# Altium integrated library TI Data Converters Digital to Analog Converter.IntLib: 1533 symbols (part 11 of 99)
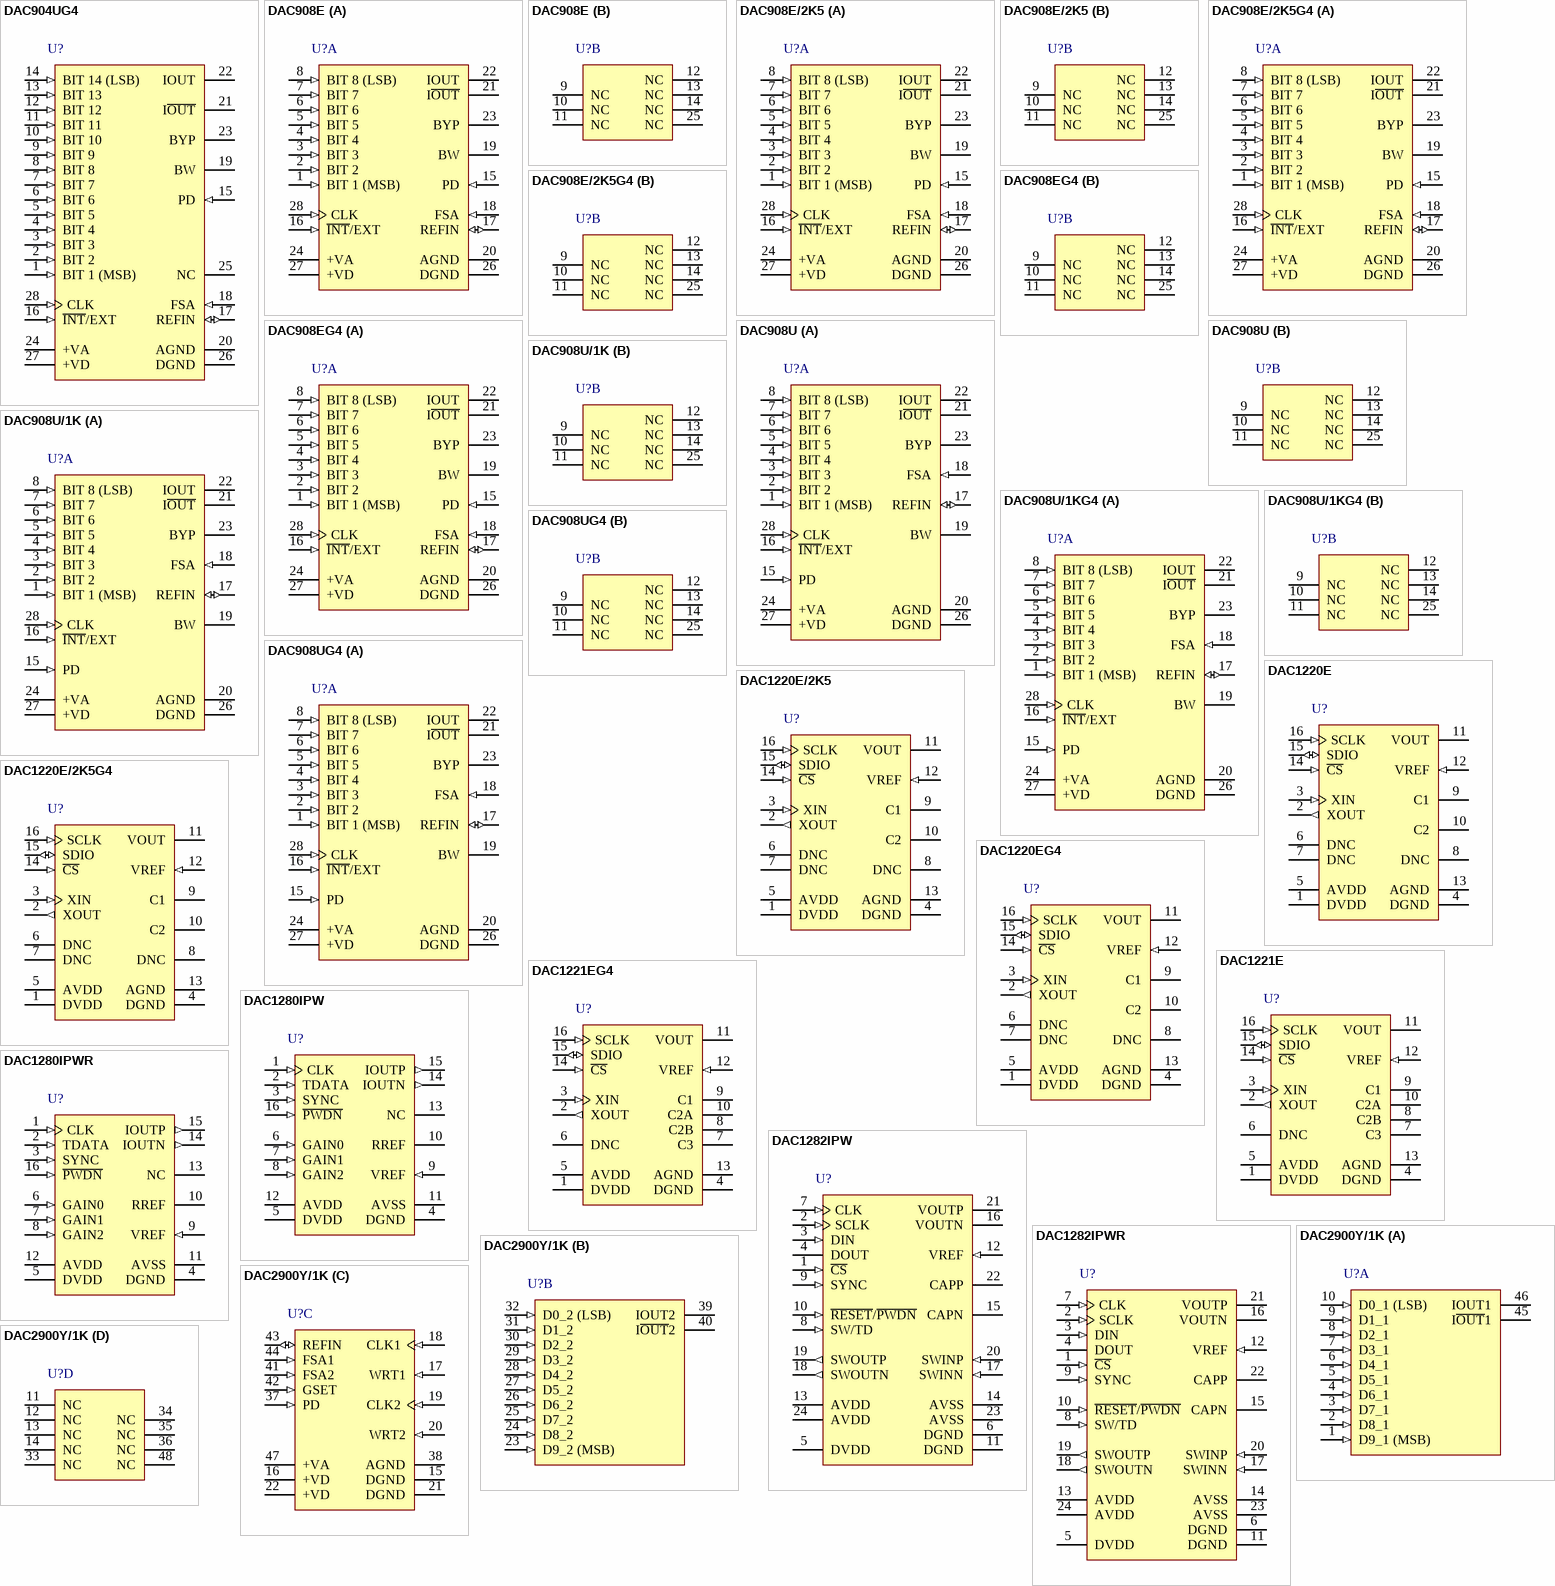
[diagram p83: symbols DAC904UG4 to DAC2900Y/1K]

## DAC2900Y/1K
designator U?
Dual, 10-Bit, 125 MSPS DAC, -40 to 85 degC, 48-pin QFP (PFB48), Green (RoHS & no Sb/Br); Manufacturer: Texas Instruments; PartNumber: DAC2900Y/1K; DAC Channels: 2; DNL(Max)(+/-LSB): 1; Interface: Parallel CMOS; Power Consumption(Typ)(mW): 310; Resolution(Bits): 10; Settling Time(us): 0.03; SFDR(dB): 80; SNR(dB): 62; SubFamily: High Speed DAC (>10MSPS); DatasheetVersion: SBAS166C; PackageVersion: 4073176/B, 10/1996; PackageReference: PFB48; PackageDescription: 48-Pin Plastic Flat Pack, Body 7 x 7 mm, Pitch 0.5 mm; Supplier 1: Digi-Key; Supplier Part Number 1: DAC2900Y/1K-ND; Supplier 2: Mouser; Supplier Part Number 2: 595-DAC2900Y/1K; Eco-Plan: Green (RoHS & no Sb/Br); INL(Max)(+/-LSB): 1; Mounting Technology: Surface Mount; Code_JEDEC: MS-026; ComponentLink1Description: Manufacturer URL; ComponentLink1URL: http://www.ti.com/; ComponentLink2Description: Datasheet; ComponentLink2URL: http://www.ti.com/general/docs/lit/getliterature.tsp?genericPartNumber=DAC2900&fileType=pdf; ComponentLink3Description: Package Specification; ComponentLink3URL: http://www.ti.com/lit/ml/mtqf019a/mtqf019a.pdf
footprint TI-PFB48_N (QFP, 48-Leads, Body 7x7mm, Pitch 0.5mm, IPC Medium Density)
footprint TI-PFB48_L (QFP, 48-Leads, Body 7x7mm, Pitch 0.5mm, IPC High Density)
footprint TI-PFB48_M (QFP, 48-Leads, Body 7x7mm, Pitch 0.5mm, IPC Low Density)
part A pins: 1 D9_1 (MSB) (in) "Data Port DAC1, Data Bit 9 (MSB).", 2 D8_1 (in) "Data Port DAC1, Data Bit 8.", 3 D7_1 (in) "Data Port DAC1, Data Bit 7.", 4 D6_1 (in) "Data Port DAC1, Data Bit6.", 5 D5_1 (in) "Data Port DAC1, Data Bit 5.", 6 D4_1 (in) "Data Port DAC1, Data Bit 4.", 7 D3_1 (in) "Data Port DAC1, Data Bit 3.", 8 D2_1 (in) "Data Port DAC1, Data Bit 2.", 9 D1_1 (in) "Data Port DAC1, Data Bit 1.", 10 D0_1 (LSB) (in) "Data Port DAC1, Data Bit 0 (LSB).", 45 I~{OUT}1 (hiz) "Complementary Current Output DAC1. Full-scale with all bits of data port 1 low.", 46 IOUT1 (hiz) "Current Output DAC1. Full-scale with all bits of data port 1 HIGH."
part B pins: 23 D9_2 (MSB) (in) "Data Port DAC2, Data Bit 9 (MSB).", 24 D8_2 (in) "Data Port DAC2, Data Bit 8.", 25 D7_2 (in) "Data Port DAC2, Data Bit 7.", 26 D6_2 (in) "Data Port DAC2, Data Bit6.", 27 D5_2 (in) "Data Port DAC2, Data Bit 5.", 28 D4_2 (in) "Data Port DAC2, Data Bit 4.", 29 D3_2 (in) "Data Port DAC2, Data Bit 3.", 30 D2_2 (in) "Data Port DAC2, Data Bit 2.", 31 D1_2 (in) "Data Port DAC2, Data Bit 1.", 32 D0_2 (LSB) (in) "Data Port DAC2, Data Bit 0 (LSB).", 39 IOUT2 (hiz) "Current Output DAC2. Full-scale with all bits of data port 2 high.", 40 I~{OUT}2 (hiz) "Complementary Current Output DAC2. Full-scale with all bits of data port 2 low."
part C pins: 15 DGND (power) "Digital Ground", 16 +VD (power) "Digital Supply, +3.0V to +5.5V", 17 WRT1 (in) "DAC1 Input Latches Write Signal", 18 CLK1 (in) "Clock Input DAC1", 19 CLK2 (in) "Clock Input DAC2", 20 WRT2 (in) "DAC2 Input Latches Write Signal", 21 DGND (power) "Digital Ground", 22 +VD (power) "Digital Supply, +3.0V to +5.5V", 37 PD (in) "Power-Down Function Control Input; H = DAC in power-down mode; L = DAC in normal operation (Internal pull-down for default L).", 38 AGND (power) "Analog Ground", 41 FSA2 (in) "Full-Scale Adjust, DAC2. Connect External RSET Resistor", 42 GSET (in) "Gain-Setting Mode (H = 1 Resistor, L = 2 Resistor)", 43 REFIN (io) "Internal Reference Voltage output; External Reference Voltage input. Bypass with 0.1uF to AGND for internal reference operation.", 44 FSA1 (in) "Full-Scale Adjust, DAC1. Connect External RSET Resistor", 47 +VA (power) "Analog Supply, +3.0V to +5.5V"
part D pins: 11 NC "No Connection", 12 NC "No Connection", 13 NC "No Connection", 14 NC "No Connection", 33 NC "No Connection", 34 NC "No Connection", 35 NC "No Connection", 36 NC "No Connection", 48 NC "No Connection"

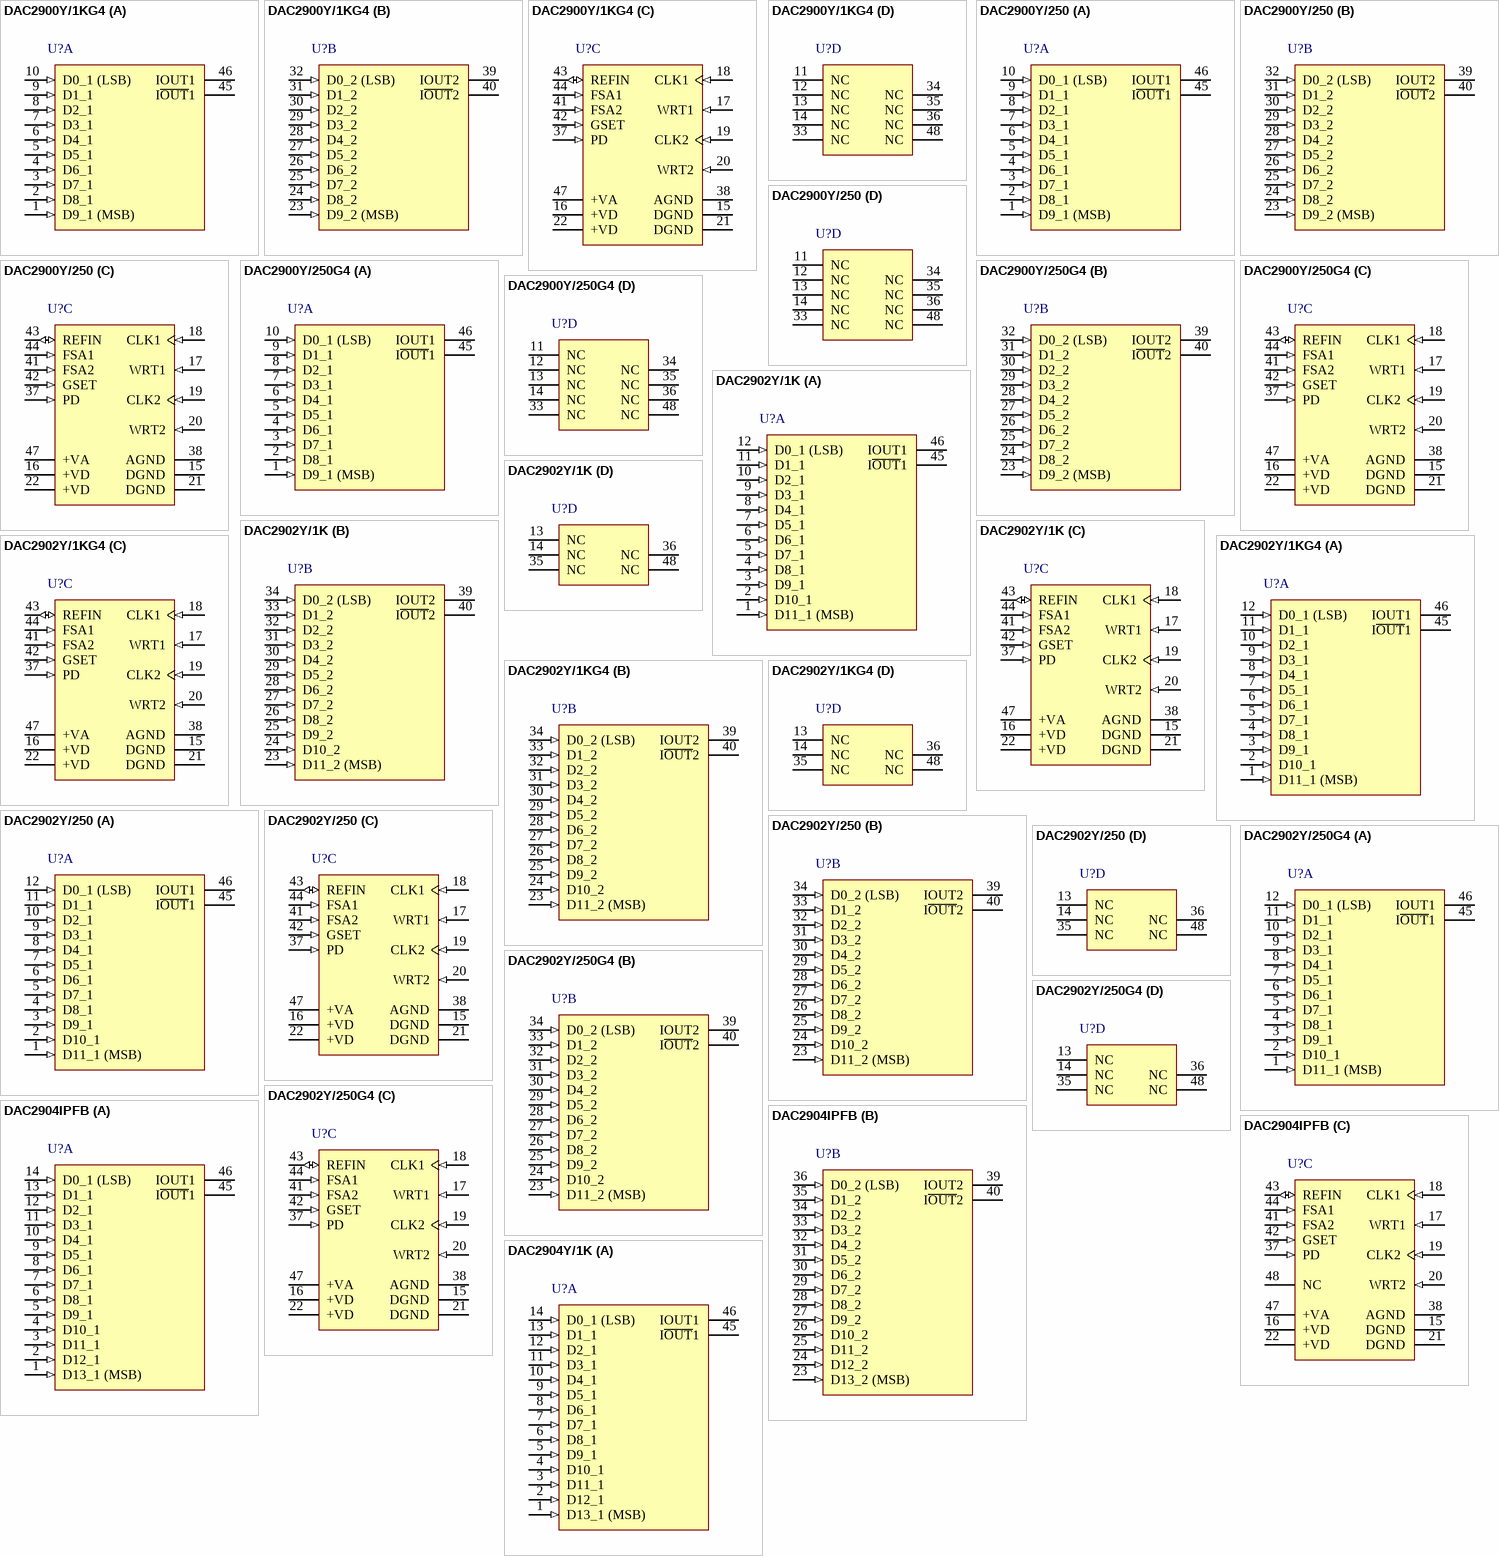
[diagram p9: symbols DAC2900Y/1KG4 to DAC2904Y/1K]

## DAC2900Y/1KG4
designator U?
Dual, 10-Bit, 125 MSPS DAC, -40 to 85 degC, 48-pin QFP (PFB48), Green (RoHS & no Sb/Br); Manufacturer: Texas Instruments; PartNumber: DAC2900Y/1KG4; DAC Channels: 2; DNL(Max)(+/-LSB): 1; Interface: Parallel CMOS; Power Consumption(Typ)(mW): 310; Resolution(Bits): 10; Settling Time(us): 0.03; SFDR(dB): 80; SNR(dB): 62; SubFamily: High Speed DAC (>10MSPS); DatasheetVersion: SBAS166C; PackageVersion: 4073176/B, 10/1996; PackageReference: PFB48; PackageDescription: 48-Pin Plastic Flat Pack, Body 7 x 7 mm, Pitch 0.5 mm; Supplier 1: Digi-Key; Supplier Part Number 1: DAC2900Y/1KG4-ND; Supplier 2: Mouser; Supplier Part Number 2: 595-DAC2900Y/1KG4; Eco-Plan: Green (RoHS & no Sb/Br); INL(Max)(+/-LSB): 1; Mounting Technology: Surface Mount; Code_JEDEC: MS-026; ComponentLink1Description: Manufacturer URL; ComponentLink1URL: http://www.ti.com/; ComponentLink2Description: Datasheet; ComponentLink2URL: http://www.ti.com/general/docs/lit/getliterature.tsp?genericPartNumber=DAC2900&fileType=pdf; ComponentLink3Description: Package Specification; ComponentLink3URL: http://www.ti.com/lit/ml/mtqf019a/mtqf019a.pdf
footprint TI-PFB48_N (QFP, 48-Leads, Body 7x7mm, Pitch 0.5mm, IPC Medium Density)
footprint TI-PFB48_L (QFP, 48-Leads, Body 7x7mm, Pitch 0.5mm, IPC High Density)
footprint TI-PFB48_M (QFP, 48-Leads, Body 7x7mm, Pitch 0.5mm, IPC Low Density)
part A pins: 1 D9_1 (MSB) (in) "Data Port DAC1, Data Bit 9 (MSB).", 2 D8_1 (in) "Data Port DAC1, Data Bit 8.", 3 D7_1 (in) "Data Port DAC1, Data Bit 7.", 4 D6_1 (in) "Data Port DAC1, Data Bit6.", 5 D5_1 (in) "Data Port DAC1, Data Bit 5.", 6 D4_1 (in) "Data Port DAC1, Data Bit 4.", 7 D3_1 (in) "Data Port DAC1, Data Bit 3.", 8 D2_1 (in) "Data Port DAC1, Data Bit 2.", 9 D1_1 (in) "Data Port DAC1, Data Bit 1.", 10 D0_1 (LSB) (in) "Data Port DAC1, Data Bit 0 (LSB).", 45 I~{OUT}1 (hiz) "Complementary Current Output DAC1. Full-scale with all bits of data port 1 low.", 46 IOUT1 (hiz) "Current Output DAC1. Full-scale with all bits of data port 1 HIGH."
part B pins: 23 D9_2 (MSB) (in) "Data Port DAC2, Data Bit 9 (MSB).", 24 D8_2 (in) "Data Port DAC2, Data Bit 8.", 25 D7_2 (in) "Data Port DAC2, Data Bit 7.", 26 D6_2 (in) "Data Port DAC2, Data Bit6.", 27 D5_2 (in) "Data Port DAC2, Data Bit 5.", 28 D4_2 (in) "Data Port DAC2, Data Bit 4.", 29 D3_2 (in) "Data Port DAC2, Data Bit 3.", 30 D2_2 (in) "Data Port DAC2, Data Bit 2.", 31 D1_2 (in) "Data Port DAC2, Data Bit 1.", 32 D0_2 (LSB) (in) "Data Port DAC2, Data Bit 0 (LSB).", 39 IOUT2 (hiz) "Current Output DAC2. Full-scale with all bits of data port 2 high.", 40 I~{OUT}2 (hiz) "Complementary Current Output DAC2. Full-scale with all bits of data port 2 low."
part C pins: 15 DGND (power) "Digital Ground", 16 +VD (power) "Digital Supply, +3.0V to +5.5V", 17 WRT1 (in) "DAC1 Input Latches Write Signal", 18 CLK1 (in) "Clock Input DAC1", 19 CLK2 (in) "Clock Input DAC2", 20 WRT2 (in) "DAC2 Input Latches Write Signal", 21 DGND (power) "Digital Ground", 22 +VD (power) "Digital Supply, +3.0V to +5.5V", 37 PD (in) "Power-Down Function Control Input; H = DAC in power-down mode; L = DAC in normal operation (Internal pull-down for default L).", 38 AGND (power) "Analog Ground", 41 FSA2 (in) "Full-Scale Adjust, DAC2. Connect External RSET Resistor", 42 GSET (in) "Gain-Setting Mode (H = 1 Resistor, L = 2 Resistor)", 43 REFIN (io) "Internal Reference Voltage output; External Reference Voltage input. Bypass with 0.1uF to AGND for internal reference operation.", 44 FSA1 (in) "Full-Scale Adjust, DAC1. Connect External RSET Resistor", 47 +VA (power) "Analog Supply, +3.0V to +5.5V"
part D pins: 11 NC "No Connection", 12 NC "No Connection", 13 NC "No Connection", 14 NC "No Connection", 33 NC "No Connection", 34 NC "No Connection", 35 NC "No Connection", 36 NC "No Connection", 48 NC "No Connection"

## DAC2900Y/250
designator U?
Dual, 10-Bit, 125 MSPS DAC, -40 to 85 degC, 48-pin QFP (PFB48), Green (RoHS & no Sb/Br); Manufacturer: Texas Instruments; PartNumber: DAC2900Y/250; DAC Channels: 2; DNL(Max)(+/-LSB): 1; Interface: Parallel CMOS; Power Consumption(Typ)(mW): 310; Resolution(Bits): 10; Settling Time(us): 0.03; SFDR(dB): 80; SNR(dB): 62; SubFamily: High Speed DAC (>10MSPS); DatasheetVersion: SBAS166C; PackageVersion: 4073176/B, 10/1996; PackageReference: PFB48; PackageDescription: 48-Pin Plastic Flat Pack, Body 7 x 7 mm, Pitch 0.5 mm; Supplier 1: Digi-Key; Supplier Part Number 1: DAC2900Y/250TR-ND; Supplier 2: Digi-Key; Supplier Part Number 2: DAC2900Y/250CT-ND; Supplier 3: Digi-Key; Supplier Part Number 3: DAC2900Y/250DKR-ND; Supplier 4: Newark; Supplier Part Number 4: 74C9116; Supplier 5: Mouser; Supplier Part Number 5: 595-DAC2900Y/250; Eco-Plan: Green (RoHS & no Sb/Br); INL(Max)(+/-LSB): 1; Mounting Technology: Surface Mount; Code_JEDEC: MS-026; ComponentLink1Description: Manufacturer URL; ComponentLink1URL: http://www.ti.com/; ComponentLink2Description: Datasheet; ComponentLink2URL: http://www.ti.com/general/docs/lit/getliterature.tsp?genericPartNumber=DAC2900&fileType=pdf; ComponentLink3Description: Package Specification; ComponentLink3URL: http://www.ti.com/lit/ml/mtqf019a/mtqf019a.pdf
footprint TI-PFB48_N (QFP, 48-Leads, Body 7x7mm, Pitch 0.5mm, IPC Medium Density)
footprint TI-PFB48_L (QFP, 48-Leads, Body 7x7mm, Pitch 0.5mm, IPC High Density)
footprint TI-PFB48_M (QFP, 48-Leads, Body 7x7mm, Pitch 0.5mm, IPC Low Density)
part A pins: 1 D9_1 (MSB) (in) "Data Port DAC1, Data Bit 9 (MSB).", 2 D8_1 (in) "Data Port DAC1, Data Bit 8.", 3 D7_1 (in) "Data Port DAC1, Data Bit 7.", 4 D6_1 (in) "Data Port DAC1, Data Bit6.", 5 D5_1 (in) "Data Port DAC1, Data Bit 5.", 6 D4_1 (in) "Data Port DAC1, Data Bit 4.", 7 D3_1 (in) "Data Port DAC1, Data Bit 3.", 8 D2_1 (in) "Data Port DAC1, Data Bit 2.", 9 D1_1 (in) "Data Port DAC1, Data Bit 1.", 10 D0_1 (LSB) (in) "Data Port DAC1, Data Bit 0 (LSB).", 45 I~{OUT}1 (hiz) "Complementary Current Output DAC1. Full-scale with all bits of data port 1 low.", 46 IOUT1 (hiz) "Current Output DAC1. Full-scale with all bits of data port 1 HIGH."
part B pins: 23 D9_2 (MSB) (in) "Data Port DAC2, Data Bit 9 (MSB).", 24 D8_2 (in) "Data Port DAC2, Data Bit 8.", 25 D7_2 (in) "Data Port DAC2, Data Bit 7.", 26 D6_2 (in) "Data Port DAC2, Data Bit6.", 27 D5_2 (in) "Data Port DAC2, Data Bit 5.", 28 D4_2 (in) "Data Port DAC2, Data Bit 4.", 29 D3_2 (in) "Data Port DAC2, Data Bit 3.", 30 D2_2 (in) "Data Port DAC2, Data Bit 2.", 31 D1_2 (in) "Data Port DAC2, Data Bit 1.", 32 D0_2 (LSB) (in) "Data Port DAC2, Data Bit 0 (LSB).", 39 IOUT2 (hiz) "Current Output DAC2. Full-scale with all bits of data port 2 high.", 40 I~{OUT}2 (hiz) "Complementary Current Output DAC2. Full-scale with all bits of data port 2 low."
part C pins: 15 DGND (power) "Digital Ground", 16 +VD (power) "Digital Supply, +3.0V to +5.5V", 17 WRT1 (in) "DAC1 Input Latches Write Signal", 18 CLK1 (in) "Clock Input DAC1", 19 CLK2 (in) "Clock Input DAC2", 20 WRT2 (in) "DAC2 Input Latches Write Signal", 21 DGND (power) "Digital Ground", 22 +VD (power) "Digital Supply, +3.0V to +5.5V", 37 PD (in) "Power-Down Function Control Input; H = DAC in power-down mode; L = DAC in normal operation (Internal pull-down for default L).", 38 AGND (power) "Analog Ground", 41 FSA2 (in) "Full-Scale Adjust, DAC2. Connect External RSET Resistor", 42 GSET (in) "Gain-Setting Mode (H = 1 Resistor, L = 2 Resistor)", 43 REFIN (io) "Internal Reference Voltage output; External Reference Voltage input. Bypass with 0.1uF to AGND for internal reference operation.", 44 FSA1 (in) "Full-Scale Adjust, DAC1. Connect External RSET Resistor", 47 +VA (power) "Analog Supply, +3.0V to +5.5V"
part D pins: 11 NC "No Connection", 12 NC "No Connection", 13 NC "No Connection", 14 NC "No Connection", 33 NC "No Connection", 34 NC "No Connection", 35 NC "No Connection", 36 NC "No Connection", 48 NC "No Connection"

## DAC2900Y/250G4
designator U?
Dual, 10-Bit, 125 MSPS DAC, -40 to 85 degC, 48-pin QFP (PFB48), Green (RoHS & no Sb/Br); Manufacturer: Texas Instruments; PartNumber: DAC2900Y/250G4; DAC Channels: 2; DNL(Max)(+/-LSB): 1; Interface: Parallel CMOS; Power Consumption(Typ)(mW): 310; Resolution(Bits): 10; Settling Time(us): 0.03; SFDR(dB): 80; SNR(dB): 62; SubFamily: High Speed DAC (>10MSPS); DatasheetVersion: SBAS166C; PackageVersion: 4073176/B, 10/1996; PackageReference: PFB48; PackageDescription: 48-Pin Plastic Flat Pack, Body 7 x 7 mm, Pitch 0.5 mm; Supplier 1: Digi-Key; Supplier Part Number 1: DAC2900Y/250G4-ND; Supplier 2: Mouser; Supplier Part Number 2: 595-DAC2900Y/250G4; Eco-Plan: Green (RoHS & no Sb/Br); INL(Max)(+/-LSB): 1; Mounting Technology: Surface Mount; Code_JEDEC: MS-026; ComponentLink1Description: Manufacturer URL; ComponentLink1URL: http://www.ti.com/; ComponentLink2Description: Datasheet; ComponentLink2URL: http://www.ti.com/general/docs/lit/getliterature.tsp?genericPartNumber=DAC2900&fileType=pdf; ComponentLink3Description: Package Specification; ComponentLink3URL: http://www.ti.com/lit/ml/mtqf019a/mtqf019a.pdf
footprint TI-PFB48_N (QFP, 48-Leads, Body 7x7mm, Pitch 0.5mm, IPC Medium Density)
footprint TI-PFB48_L (QFP, 48-Leads, Body 7x7mm, Pitch 0.5mm, IPC High Density)
footprint TI-PFB48_M (QFP, 48-Leads, Body 7x7mm, Pitch 0.5mm, IPC Low Density)
part A pins: 1 D9_1 (MSB) (in) "Data Port DAC1, Data Bit 9 (MSB).", 2 D8_1 (in) "Data Port DAC1, Data Bit 8.", 3 D7_1 (in) "Data Port DAC1, Data Bit 7.", 4 D6_1 (in) "Data Port DAC1, Data Bit6.", 5 D5_1 (in) "Data Port DAC1, Data Bit 5.", 6 D4_1 (in) "Data Port DAC1, Data Bit 4.", 7 D3_1 (in) "Data Port DAC1, Data Bit 3.", 8 D2_1 (in) "Data Port DAC1, Data Bit 2.", 9 D1_1 (in) "Data Port DAC1, Data Bit 1.", 10 D0_1 (LSB) (in) "Data Port DAC1, Data Bit 0 (LSB).", 45 I~{OUT}1 (hiz) "Complementary Current Output DAC1. Full-scale with all bits of data port 1 low.", 46 IOUT1 (hiz) "Current Output DAC1. Full-scale with all bits of data port 1 HIGH."
part B pins: 23 D9_2 (MSB) (in) "Data Port DAC2, Data Bit 9 (MSB).", 24 D8_2 (in) "Data Port DAC2, Data Bit 8.", 25 D7_2 (in) "Data Port DAC2, Data Bit 7.", 26 D6_2 (in) "Data Port DAC2, Data Bit6.", 27 D5_2 (in) "Data Port DAC2, Data Bit 5.", 28 D4_2 (in) "Data Port DAC2, Data Bit 4.", 29 D3_2 (in) "Data Port DAC2, Data Bit 3.", 30 D2_2 (in) "Data Port DAC2, Data Bit 2.", 31 D1_2 (in) "Data Port DAC2, Data Bit 1.", 32 D0_2 (LSB) (in) "Data Port DAC2, Data Bit 0 (LSB).", 39 IOUT2 (hiz) "Current Output DAC2. Full-scale with all bits of data port 2 high.", 40 I~{OUT}2 (hiz) "Complementary Current Output DAC2. Full-scale with all bits of data port 2 low."
part C pins: 15 DGND (power) "Digital Ground", 16 +VD (power) "Digital Supply, +3.0V to +5.5V", 17 WRT1 (in) "DAC1 Input Latches Write Signal", 18 CLK1 (in) "Clock Input DAC1", 19 CLK2 (in) "Clock Input DAC2", 20 WRT2 (in) "DAC2 Input Latches Write Signal", 21 DGND (power) "Digital Ground", 22 +VD (power) "Digital Supply, +3.0V to +5.5V", 37 PD (in) "Power-Down Function Control Input; H = DAC in power-down mode; L = DAC in normal operation (Internal pull-down for default L).", 38 AGND (power) "Analog Ground", 41 FSA2 (in) "Full-Scale Adjust, DAC2. Connect External RSET Resistor", 42 GSET (in) "Gain-Setting Mode (H = 1 Resistor, L = 2 Resistor)", 43 REFIN (io) "Internal Reference Voltage output; External Reference Voltage input. Bypass with 0.1uF to AGND for internal reference operation.", 44 FSA1 (in) "Full-Scale Adjust, DAC1. Connect External RSET Resistor", 47 +VA (power) "Analog Supply, +3.0V to +5.5V"
part D pins: 11 NC "No Connection", 12 NC "No Connection", 13 NC "No Connection", 14 NC "No Connection", 33 NC "No Connection", 34 NC "No Connection", 35 NC "No Connection", 36 NC "No Connection", 48 NC "No Connection"

## DAC2902Y/1K
designator U?
Dual, 12-Bit, 125 MSPS DAC, -40 to 85 degC, 48-pin QFP (PFB48), Green (RoHS & no Sb/Br); Manufacturer: Texas Instruments; PartNumber: DAC2902Y/1K; DAC Channels: 2; DNL(Max)(+/-LSB): 2.5; INL(Max)(+/-LSB): 3; Interface: Parallel CMOS; Power Consumption(Typ)(mW): 310; Resolution(Bits): 12; Settling Time(us): 0.03; SFDR(dB): 82; SNR(dB): 68; SubFamily: High Speed DAC (>10MSPS); DatasheetVersion: SBAS167C; PackageVersion: 4073176/B, 10/1996; PackageReference: PFB48; PackageDescription: 48-Pin Plastic Flat Pack, Body 7 x 7 mm, Pitch 0.5 mm; Supplier 1: Digi-Key; Supplier Part Number 1: DAC2902Y/1K-ND; Supplier 2: Mouser; Supplier Part Number 2: 595-DAC2902Y/1K; Eco-Plan: Green (RoHS & no Sb/Br); Mounting Technology: Surface Mount; Code_JEDEC: MS-026; ComponentLink1Description: Manufacturer URL; ComponentLink1URL: http://www.ti.com/; ComponentLink2Description: Datasheet; ComponentLink2URL: http://www.ti.com/general/docs/lit/getliterature.tsp?genericPartNumber=DAC2902&fileType=pdf; ComponentLink3Description: Package Specification; ComponentLink3URL: http://www.ti.com/lit/ml/mtqf019a/mtqf019a.pdf
footprint TI-PFB48_N (QFP, 48-Leads, Body 7x7mm, Pitch 0.5mm, IPC Medium Density)
footprint TI-PFB48_L (QFP, 48-Leads, Body 7x7mm, Pitch 0.5mm, IPC High Density)
footprint TI-PFB48_M (QFP, 48-Leads, Body 7x7mm, Pitch 0.5mm, IPC Low Density)
part A pins: 1 D11_1 (MSB) (in) "Data Port DAC1, Data Bit 11 (MSB) to Bit 0 (LSB).", 2 D10_1 (in) "Data Port DAC1, Data Bit 11 (MSB) to Bit 0 (LSB).", 3 D9_1 (in) "Data Port DAC1, Data Bit 11 (MSB) to Bit 0 (LSB).", 4 D8_1 (in) "Data Port DAC1, Data Bit 11 (MSB) to Bit 0 (LSB).", 5 D7_1 (in) "Data Port DAC1, Data Bit 11 (MSB) to Bit 0 (LSB).", 6 D6_1 (in) "Data Port DAC1, Data Bit 11 (MSB) to Bit 0 (LSB).", 7 D5_1 (in) "Data Port DAC1, Data Bit 11 (MSB) to Bit 0 (LSB).", 8 D4_1 (in) "Data Port DAC1, Data Bit 11 (MSB) to Bit 0 (LSB).", 9 D3_1 (in) "Data Port DAC1, Data Bit 11 (MSB) to Bit 0 (LSB).", 10 D2_1 (in) "Data Port DAC1, Data Bit 11 (MSB) to Bit 0 (LSB).", 11 D1_1 (in) "Data Port DAC1, Data Bit 11 (MSB) to Bit 0 (LSB).", 12 D0_1 (LSB) (in) "Data Port DAC1, Data Bit 11 (MSB) to Bit 0 (LSB).", 45 I~{OUT}1 (hiz) "Complementary Current Output DAC1. Full-scale with all bits of data port 1 LOW.", 46 IOUT1 (hiz) "Current Output DAC1. Full-scale with all bits of data port 1 HIGH."
part B pins: 23 D11_2 (MSB) (in) "Data Port DAC2, Data Bit 11 (MSB) to Bit 0 (LSB).", 24 D10_2 (in) "Data Port DAC2, Data Bit 11 (MSB) to Bit 0 (LSB).", 25 D9_2 (in) "Data Port DAC2, Data Bit 11 (MSB) to Bit 0 (LSB).", 26 D8_2 (in) "Data Port DAC2, Data Bit 11 (MSB) to Bit 0 (LSB).", 27 D7_2 (in) "Data Port DAC2, Data Bit 11 (MSB) to Bit 0 (LSB).", 28 D6_2 (in) "Data Port DAC2, Data Bit 11 (MSB) to Bit 0 (LSB).", 29 D5_2 (in) "Data Port DAC2, Data Bit 11 (MSB) to Bit 0 (LSB).", 30 D4_2 (in) "Data Port DAC2, Data Bit 11 (MSB) to Bit 0 (LSB).", 31 D3_2 (in) "Data Port DAC2, Data Bit 11 (MSB) to Bit 0 (LSB).", 32 D2_2 (in) "Data Port DAC2, Data Bit 11 (MSB) to Bit 0 (LSB).", 33 D1_2 (in) "Data Port DAC2, Data Bit 11 (MSB) to Bit 0 (LSB).", 34 D0_2 (LSB) (in) "Data Port DAC2, Data Bit 11 (MSB) to Bit 0 (LSB).", 39 IOUT2 (hiz) "Current Output DAC2. Full-scale with all bits of data port 2 HIGH.", 40 I~{OUT}2 (hiz) "Complementary Current Output DAC2. Full-scale with all bits of data port 2 LOW."
part C pins: 15 DGND (power) "Digital Ground", 16 +VD (power) "Digital Supply, +3.0V to +5.5V", 17 WRT1 (in) "DAC1 Input Latches Write Signal", 18 CLK1 (in) "Clock Input DAC1", 19 CLK2 (in) "Clock Input DAC2", 20 WRT2 (in) "DAC2 Input Latches Write Signal", 21 DGND (power) "Digital Ground", 22 +VD (power) "Digital Supply, +3.0V to +5.5V", 37 PD (in) "Power-Down Function Control Input; H = DAC in power-down mode; L = DAC in normal operation (Internal pull-down for default “L?.", 38 AGND (power) "Analog Ground", 41 FSA2 (in) "Full-Scale Adjust, DAC2. Connect External RSET Resistor.", 42 GSET (in) "Gain-Setting Mode (H = 1 Resistor, L = 2 Resistor)", 43 REFIN (io) "Internal Reference Voltage output; External Reference Voltage input. Bypass with 0.1uF to AGND for internal reference operation.", 44 FSA1 (in) "Full-Scale Adjust, DAC1. Connect External RSET Resistor", 47 +VA (power) "Analog Supply, +3.0V to +5.5V"
part D pins: 13 NC "No Connection", 14 NC "No Connection", 35 NC "No Connection", 36 NC "No Connection", 48 NC "No Connection"

## DAC2902Y/1KG4
designator U?
Dual, 12-Bit, 125 MSPS DAC, -40 to 85 degC, 48-pin QFP (PFB48), Green (RoHS & no Sb/Br); Manufacturer: Texas Instruments; PartNumber: DAC2902Y/1KG4; DAC Channels: 2; DNL(Max)(+/-LSB): 2.5; INL(Max)(+/-LSB): 3; Interface: Parallel CMOS; Power Consumption(Typ)(mW): 310; Resolution(Bits): 12; Settling Time(us): 0.03; SFDR(dB): 82; SNR(dB): 68; SubFamily: High Speed DAC (>10MSPS); DatasheetVersion: SBAS167C; PackageVersion: 4073176/B, 10/1996; PackageReference: PFB48; PackageDescription: 48-Pin Plastic Flat Pack, Body 7 x 7 mm, Pitch 0.5 mm; Supplier 1: Digi-Key; Supplier Part Number 1: DAC2902Y/1KG4-ND; Supplier 2: Mouser; Supplier Part Number 2: 595-DAC2902Y/1KG4; Eco-Plan: Green (RoHS & no Sb/Br); Mounting Technology: Surface Mount; Code_JEDEC: MS-026; ComponentLink1Description: Manufacturer URL; ComponentLink1URL: http://www.ti.com/; ComponentLink2Description: Datasheet; ComponentLink2URL: http://www.ti.com/general/docs/lit/getliterature.tsp?genericPartNumber=DAC2902&fileType=pdf; ComponentLink3Description: Package Specification; ComponentLink3URL: http://www.ti.com/lit/ml/mtqf019a/mtqf019a.pdf
footprint TI-PFB48_N (QFP, 48-Leads, Body 7x7mm, Pitch 0.5mm, IPC Medium Density)
footprint TI-PFB48_L (QFP, 48-Leads, Body 7x7mm, Pitch 0.5mm, IPC High Density)
footprint TI-PFB48_M (QFP, 48-Leads, Body 7x7mm, Pitch 0.5mm, IPC Low Density)
part A pins: 1 D11_1 (MSB) (in) "Data Port DAC1, Data Bit 11 (MSB) to Bit 0 (LSB).", 2 D10_1 (in) "Data Port DAC1, Data Bit 11 (MSB) to Bit 0 (LSB).", 3 D9_1 (in) "Data Port DAC1, Data Bit 11 (MSB) to Bit 0 (LSB).", 4 D8_1 (in) "Data Port DAC1, Data Bit 11 (MSB) to Bit 0 (LSB).", 5 D7_1 (in) "Data Port DAC1, Data Bit 11 (MSB) to Bit 0 (LSB).", 6 D6_1 (in) "Data Port DAC1, Data Bit 11 (MSB) to Bit 0 (LSB).", 7 D5_1 (in) "Data Port DAC1, Data Bit 11 (MSB) to Bit 0 (LSB).", 8 D4_1 (in) "Data Port DAC1, Data Bit 11 (MSB) to Bit 0 (LSB).", 9 D3_1 (in) "Data Port DAC1, Data Bit 11 (MSB) to Bit 0 (LSB).", 10 D2_1 (in) "Data Port DAC1, Data Bit 11 (MSB) to Bit 0 (LSB).", 11 D1_1 (in) "Data Port DAC1, Data Bit 11 (MSB) to Bit 0 (LSB).", 12 D0_1 (LSB) (in) "Data Port DAC1, Data Bit 11 (MSB) to Bit 0 (LSB).", 45 I~{OUT}1 (hiz) "Complementary Current Output DAC1. Full-scale with all bits of data port 1 LOW.", 46 IOUT1 (hiz) "Current Output DAC1. Full-scale with all bits of data port 1 HIGH."
part B pins: 23 D11_2 (MSB) (in) "Data Port DAC2, Data Bit 11 (MSB) to Bit 0 (LSB).", 24 D10_2 (in) "Data Port DAC2, Data Bit 11 (MSB) to Bit 0 (LSB).", 25 D9_2 (in) "Data Port DAC2, Data Bit 11 (MSB) to Bit 0 (LSB).", 26 D8_2 (in) "Data Port DAC2, Data Bit 11 (MSB) to Bit 0 (LSB).", 27 D7_2 (in) "Data Port DAC2, Data Bit 11 (MSB) to Bit 0 (LSB).", 28 D6_2 (in) "Data Port DAC2, Data Bit 11 (MSB) to Bit 0 (LSB).", 29 D5_2 (in) "Data Port DAC2, Data Bit 11 (MSB) to Bit 0 (LSB).", 30 D4_2 (in) "Data Port DAC2, Data Bit 11 (MSB) to Bit 0 (LSB).", 31 D3_2 (in) "Data Port DAC2, Data Bit 11 (MSB) to Bit 0 (LSB).", 32 D2_2 (in) "Data Port DAC2, Data Bit 11 (MSB) to Bit 0 (LSB).", 33 D1_2 (in) "Data Port DAC2, Data Bit 11 (MSB) to Bit 0 (LSB).", 34 D0_2 (LSB) (in) "Data Port DAC2, Data Bit 11 (MSB) to Bit 0 (LSB).", 39 IOUT2 (hiz) "Current Output DAC2. Full-scale with all bits of data port 2 HIGH.", 40 I~{OUT}2 (hiz) "Complementary Current Output DAC2. Full-scale with all bits of data port 2 LOW."
part C pins: 15 DGND (power) "Digital Ground", 16 +VD (power) "Digital Supply, +3.0V to +5.5V", 17 WRT1 (in) "DAC1 Input Latches Write Signal", 18 CLK1 (in) "Clock Input DAC1", 19 CLK2 (in) "Clock Input DAC2", 20 WRT2 (in) "DAC2 Input Latches Write Signal", 21 DGND (power) "Digital Ground", 22 +VD (power) "Digital Supply, +3.0V to +5.5V", 37 PD (in) "Power-Down Function Control Input; H = DAC in power-down mode; L = DAC in normal operation (Internal pull-down for default “L?.", 38 AGND (power) "Analog Ground", 41 FSA2 (in) "Full-Scale Adjust, DAC2. Connect External RSET Resistor.", 42 GSET (in) "Gain-Setting Mode (H = 1 Resistor, L = 2 Resistor)", 43 REFIN (io) "Internal Reference Voltage output; External Reference Voltage input. Bypass with 0.1uF to AGND for internal reference operation.", 44 FSA1 (in) "Full-Scale Adjust, DAC1. Connect External RSET Resistor", 47 +VA (power) "Analog Supply, +3.0V to +5.5V"
part D pins: 13 NC "No Connection", 14 NC "No Connection", 35 NC "No Connection", 36 NC "No Connection", 48 NC "No Connection"

## DAC2902Y/250
designator U?
Dual, 12-Bit, 125 MSPS DAC, -40 to 85 degC, 48-pin QFP (PFB48), Green (RoHS & no Sb/Br); Manufacturer: Texas Instruments; PartNumber: DAC2902Y/250; DAC Channels: 2; DNL(Max)(+/-LSB): 2.5; INL(Max)(+/-LSB): 3; Interface: Parallel CMOS; Power Consumption(Typ)(mW): 310; Resolution(Bits): 12; Settling Time(us): 0.03; SFDR(dB): 82; SNR(dB): 68; SubFamily: High Speed DAC (>10MSPS); DatasheetVersion: SBAS167C; PackageVersion: 4073176/B, 10/1996; PackageReference: PFB48; PackageDescription: 48-Pin Plastic Flat Pack, Body 7 x 7 mm, Pitch 0.5 mm; Supplier 1: Digi-Key; Supplier Part Number 1: DAC2902Y/250TR-ND; Supplier 2: Digi-Key; Supplier Part Number 2: DAC2902Y/250CT-ND; Supplier 3: Digi-Key; Supplier Part Number 3: DAC2902Y/250DKR-ND; Supplier 4: Farnell; Supplier Part Number 4: 1754790; Supplier 5: Newark; Supplier Part Number 5: 69R9308; Supplier 6: Newark; Supplier Part Number 6: 74C9119; Supplier 7: Mouser; Supplier Part Number 7: 595-DAC2902Y/250; Eco-Plan: Green (RoHS & no Sb/Br); Mounting Technology: Surface Mount; Code_JEDEC: MS-026; ComponentLink1Description: Manufacturer URL; ComponentLink1URL: http://www.ti.com/; ComponentLink2Description: Datasheet; ComponentLink2URL: http://www.ti.com/general/docs/lit/getliterature.tsp?genericPartNumber=DAC2902&fileType=pdf; ComponentLink3Description: Package Specification; ComponentLink3URL: http://www.ti.com/lit/ml/mtqf019a/mtqf019a.pdf
footprint TI-PFB48_N (QFP, 48-Leads, Body 7x7mm, Pitch 0.5mm, IPC Medium Density)
footprint TI-PFB48_L (QFP, 48-Leads, Body 7x7mm, Pitch 0.5mm, IPC High Density)
footprint TI-PFB48_M (QFP, 48-Leads, Body 7x7mm, Pitch 0.5mm, IPC Low Density)
part A pins: 1 D11_1 (MSB) (in) "Data Port DAC1, Data Bit 11 (MSB) to Bit 0 (LSB).", 2 D10_1 (in) "Data Port DAC1, Data Bit 11 (MSB) to Bit 0 (LSB).", 3 D9_1 (in) "Data Port DAC1, Data Bit 11 (MSB) to Bit 0 (LSB).", 4 D8_1 (in) "Data Port DAC1, Data Bit 11 (MSB) to Bit 0 (LSB).", 5 D7_1 (in) "Data Port DAC1, Data Bit 11 (MSB) to Bit 0 (LSB).", 6 D6_1 (in) "Data Port DAC1, Data Bit 11 (MSB) to Bit 0 (LSB).", 7 D5_1 (in) "Data Port DAC1, Data Bit 11 (MSB) to Bit 0 (LSB).", 8 D4_1 (in) "Data Port DAC1, Data Bit 11 (MSB) to Bit 0 (LSB).", 9 D3_1 (in) "Data Port DAC1, Data Bit 11 (MSB) to Bit 0 (LSB).", 10 D2_1 (in) "Data Port DAC1, Data Bit 11 (MSB) to Bit 0 (LSB).", 11 D1_1 (in) "Data Port DAC1, Data Bit 11 (MSB) to Bit 0 (LSB).", 12 D0_1 (LSB) (in) "Data Port DAC1, Data Bit 11 (MSB) to Bit 0 (LSB).", 45 I~{OUT}1 (hiz) "Complementary Current Output DAC1. Full-scale with all bits of data port 1 LOW.", 46 IOUT1 (hiz) "Current Output DAC1. Full-scale with all bits of data port 1 HIGH."
part B pins: 23 D11_2 (MSB) (in) "Data Port DAC2, Data Bit 11 (MSB) to Bit 0 (LSB).", 24 D10_2 (in) "Data Port DAC2, Data Bit 11 (MSB) to Bit 0 (LSB).", 25 D9_2 (in) "Data Port DAC2, Data Bit 11 (MSB) to Bit 0 (LSB).", 26 D8_2 (in) "Data Port DAC2, Data Bit 11 (MSB) to Bit 0 (LSB).", 27 D7_2 (in) "Data Port DAC2, Data Bit 11 (MSB) to Bit 0 (LSB).", 28 D6_2 (in) "Data Port DAC2, Data Bit 11 (MSB) to Bit 0 (LSB).", 29 D5_2 (in) "Data Port DAC2, Data Bit 11 (MSB) to Bit 0 (LSB).", 30 D4_2 (in) "Data Port DAC2, Data Bit 11 (MSB) to Bit 0 (LSB).", 31 D3_2 (in) "Data Port DAC2, Data Bit 11 (MSB) to Bit 0 (LSB).", 32 D2_2 (in) "Data Port DAC2, Data Bit 11 (MSB) to Bit 0 (LSB).", 33 D1_2 (in) "Data Port DAC2, Data Bit 11 (MSB) to Bit 0 (LSB).", 34 D0_2 (LSB) (in) "Data Port DAC2, Data Bit 11 (MSB) to Bit 0 (LSB).", 39 IOUT2 (hiz) "Current Output DAC2. Full-scale with all bits of data port 2 HIGH.", 40 I~{OUT}2 (hiz) "Complementary Current Output DAC2. Full-scale with all bits of data port 2 LOW."
part C pins: 15 DGND (power) "Digital Ground", 16 +VD (power) "Digital Supply, +3.0V to +5.5V", 17 WRT1 (in) "DAC1 Input Latches Write Signal", 18 CLK1 (in) "Clock Input DAC1", 19 CLK2 (in) "Clock Input DAC2", 20 WRT2 (in) "DAC2 Input Latches Write Signal", 21 DGND (power) "Digital Ground", 22 +VD (power) "Digital Supply, +3.0V to +5.5V", 37 PD (in) "Power-Down Function Control Input; H = DAC in power-down mode; L = DAC in normal operation (Internal pull-down for default “L?.", 38 AGND (power) "Analog Ground", 41 FSA2 (in) "Full-Scale Adjust, DAC2. Connect External RSET Resistor.", 42 GSET (in) "Gain-Setting Mode (H = 1 Resistor, L = 2 Resistor)", 43 REFIN (io) "Internal Reference Voltage output; External Reference Voltage input. Bypass with 0.1uF to AGND for internal reference operation.", 44 FSA1 (in) "Full-Scale Adjust, DAC1. Connect External RSET Resistor", 47 +VA (power) "Analog Supply, +3.0V to +5.5V"
part D pins: 13 NC "No Connection", 14 NC "No Connection", 35 NC "No Connection", 36 NC "No Connection", 48 NC "No Connection"

## DAC2902Y/250G4
designator U?
Dual, 12-Bit, 125 MSPS DAC, -40 to 85 degC, 48-pin QFP (PFB48), Green (RoHS & no Sb/Br); Manufacturer: Texas Instruments; PartNumber: DAC2902Y/250G4; DAC Channels: 2; DNL(Max)(+/-LSB): 2.5; INL(Max)(+/-LSB): 3; Interface: Parallel CMOS; Power Consumption(Typ)(mW): 310; Resolution(Bits): 12; Settling Time(us): 0.03; SFDR(dB): 82; SNR(dB): 68; SubFamily: High Speed DAC (>10MSPS); DatasheetVersion: SBAS167C; PackageVersion: 4073176/B, 10/1996; PackageReference: PFB48; PackageDescription: 48-Pin Plastic Flat Pack, Body 7 x 7 mm, Pitch 0.5 mm; Supplier 1: Digi-Key; Supplier Part Number 1: DAC2902Y/250G4-ND; Supplier 2: Mouser; Supplier Part Number 2: 595-DAC2902Y/250G4; Eco-Plan: Green (RoHS & no Sb/Br); Mounting Technology: Surface Mount; Code_JEDEC: MS-026; ComponentLink1Description: Manufacturer URL; ComponentLink1URL: http://www.ti.com/; ComponentLink2Description: Datasheet; ComponentLink2URL: http://www.ti.com/general/docs/lit/getliterature.tsp?genericPartNumber=DAC2902&fileType=pdf; ComponentLink3Description: Package Specification; ComponentLink3URL: http://www.ti.com/lit/ml/mtqf019a/mtqf019a.pdf
footprint TI-PFB48_N (QFP, 48-Leads, Body 7x7mm, Pitch 0.5mm, IPC Medium Density)
footprint TI-PFB48_L (QFP, 48-Leads, Body 7x7mm, Pitch 0.5mm, IPC High Density)
footprint TI-PFB48_M (QFP, 48-Leads, Body 7x7mm, Pitch 0.5mm, IPC Low Density)
part A pins: 1 D11_1 (MSB) (in) "Data Port DAC1, Data Bit 11 (MSB) to Bit 0 (LSB).", 2 D10_1 (in) "Data Port DAC1, Data Bit 11 (MSB) to Bit 0 (LSB).", 3 D9_1 (in) "Data Port DAC1, Data Bit 11 (MSB) to Bit 0 (LSB).", 4 D8_1 (in) "Data Port DAC1, Data Bit 11 (MSB) to Bit 0 (LSB).", 5 D7_1 (in) "Data Port DAC1, Data Bit 11 (MSB) to Bit 0 (LSB).", 6 D6_1 (in) "Data Port DAC1, Data Bit 11 (MSB) to Bit 0 (LSB).", 7 D5_1 (in) "Data Port DAC1, Data Bit 11 (MSB) to Bit 0 (LSB).", 8 D4_1 (in) "Data Port DAC1, Data Bit 11 (MSB) to Bit 0 (LSB).", 9 D3_1 (in) "Data Port DAC1, Data Bit 11 (MSB) to Bit 0 (LSB).", 10 D2_1 (in) "Data Port DAC1, Data Bit 11 (MSB) to Bit 0 (LSB).", 11 D1_1 (in) "Data Port DAC1, Data Bit 11 (MSB) to Bit 0 (LSB).", 12 D0_1 (LSB) (in) "Data Port DAC1, Data Bit 11 (MSB) to Bit 0 (LSB).", 45 I~{OUT}1 (hiz) "Complementary Current Output DAC1. Full-scale with all bits of data port 1 LOW.", 46 IOUT1 (hiz) "Current Output DAC1. Full-scale with all bits of data port 1 HIGH."
part B pins: 23 D11_2 (MSB) (in) "Data Port DAC2, Data Bit 11 (MSB) to Bit 0 (LSB).", 24 D10_2 (in) "Data Port DAC2, Data Bit 11 (MSB) to Bit 0 (LSB).", 25 D9_2 (in) "Data Port DAC2, Data Bit 11 (MSB) to Bit 0 (LSB).", 26 D8_2 (in) "Data Port DAC2, Data Bit 11 (MSB) to Bit 0 (LSB).", 27 D7_2 (in) "Data Port DAC2, Data Bit 11 (MSB) to Bit 0 (LSB).", 28 D6_2 (in) "Data Port DAC2, Data Bit 11 (MSB) to Bit 0 (LSB).", 29 D5_2 (in) "Data Port DAC2, Data Bit 11 (MSB) to Bit 0 (LSB).", 30 D4_2 (in) "Data Port DAC2, Data Bit 11 (MSB) to Bit 0 (LSB).", 31 D3_2 (in) "Data Port DAC2, Data Bit 11 (MSB) to Bit 0 (LSB).", 32 D2_2 (in) "Data Port DAC2, Data Bit 11 (MSB) to Bit 0 (LSB).", 33 D1_2 (in) "Data Port DAC2, Data Bit 11 (MSB) to Bit 0 (LSB).", 34 D0_2 (LSB) (in) "Data Port DAC2, Data Bit 11 (MSB) to Bit 0 (LSB).", 39 IOUT2 (hiz) "Current Output DAC2. Full-scale with all bits of data port 2 HIGH.", 40 I~{OUT}2 (hiz) "Complementary Current Output DAC2. Full-scale with all bits of data port 2 LOW."
part C pins: 15 DGND (power) "Digital Ground", 16 +VD (power) "Digital Supply, +3.0V to +5.5V", 17 WRT1 (in) "DAC1 Input Latches Write Signal", 18 CLK1 (in) "Clock Input DAC1", 19 CLK2 (in) "Clock Input DAC2", 20 WRT2 (in) "DAC2 Input Latches Write Signal", 21 DGND (power) "Digital Ground", 22 +VD (power) "Digital Supply, +3.0V to +5.5V", 37 PD (in) "Power-Down Function Control Input; H = DAC in power-down mode; L = DAC in normal operation (Internal pull-down for default “L?.", 38 AGND (power) "Analog Ground", 41 FSA2 (in) "Full-Scale Adjust, DAC2. Connect External RSET Resistor.", 42 GSET (in) "Gain-Setting Mode (H = 1 Resistor, L = 2 Resistor)", 43 REFIN (io) "Internal Reference Voltage output; External Reference Voltage input. Bypass with 0.1uF to AGND for internal reference operation.", 44 FSA1 (in) "Full-Scale Adjust, DAC1. Connect External RSET Resistor", 47 +VA (power) "Analog Supply, +3.0V to +5.5V"
part D pins: 13 NC "No Connection", 14 NC "No Connection", 35 NC "No Connection", 36 NC "No Connection", 48 NC "No Connection"

## DAC2904IPFB
designator U?
14-Bit, 125 MSPS Dual Communications DAC, -40 to 85 degC, 48-pin QFP (PFB48), Green (RoHS & no Sb/Br); Manufacturer: Texas Instruments; PartNumber: DAC2904IPFB; DAC Channels: 2; Interface: Parallel CMOS; Power Consumption(Typ)(mW): 310; Resolution(Bits): 14; Settling Time(us): 0.03; SFDR(dB): 82; SNR(dB): 68; SubFamily: High Speed DAC (>10MSPS); DatasheetVersion: SBAS198C; PackageVersion: 4073176/B, 10/1996; PackageReference: PFB48; PackageDescription: 48-Pin Plastic Flat Pack, Body 7 x 7 mm, Pitch 0.5 mm; Supplier 1: Digi-Key; Supplier Part Number 1: DAC2904IPFB-ND; Supplier 2: Mouser; Supplier Part Number 2: 595-DAC2904IPFB; Eco-Plan: Green (RoHS & no Sb/Br); Mounting Technology: Surface Mount; Code_JEDEC: MS-026; ComponentLink1Description: Manufacturer URL; ComponentLink1URL: http://www.ti.com/; ComponentLink2Description: Datasheet; ComponentLink2URL: http://www.ti.com/general/docs/lit/getliterature.tsp?genericPartNumber=DAC2904&fileType=pdf; ComponentLink3Description: Package Specification; ComponentLink3URL: http://www.ti.com/lit/ml/mtqf019a/mtqf019a.pdf
footprint TI-PFB48_N (QFP, 48-Leads, Body 7x7mm, Pitch 0.5mm, IPC Medium Density)
footprint TI-PFB48_L (QFP, 48-Leads, Body 7x7mm, Pitch 0.5mm, IPC High Density)
footprint TI-PFB48_M (QFP, 48-Leads, Body 7x7mm, Pitch 0.5mm, IPC Low Density)
part A pins: 1 D13_1 (MSB) (in) "Data Port DAC1, data bit 13 (MSB).", 2 D12_1 (in) "Data Port DAC1, data bit 12.", 3 D11_1 (in) "Data Port DAC1, data bit 11.", 4 D10_1 (in) "Data Port DAC1, data bit 10.", 5 D9_1 (in) "Data Port DAC1, data bit 9.", 6 D8_1 (in) "Data Port DAC1, data bit 8.", 7 D7_1 (in) "Data Port DAC1, data bit 7.", 8 D6_1 (in) "Data Port DAC1, data bit6.", 9 D5_1 (in) "Data Port DAC1, data bit 5.", 10 D4_1 (in) "Data Port DAC1, data bit 4.", 11 D3_1 (in) "Data Port DAC1, data bit 3.", 12 D2_1 (in) "Data Port DAC1, data bit 2.", 13 D1_1 (in) "Data Port DAC1, data bit 1.", 14 D0_1 (LSB) (in) "Data Port DAC1, data bit 0 (LSB).", 45 I~{OUT}1 (hiz) "Complementary current output DAC1. Full-scale with all bits of data port 1 low.", 46 IOUT1 (hiz) "Current output DAC1. Full-scale with all bits of data port 1 high."
part B pins: 23 D13_2 (MSB) (in) "Data Port DAC2, data bit 13 (MSB).", 24 D12_2 (in) "Data Port DAC2, data bit 12.", 25 D11_2 (in) "Data Port DAC2, data bit 11.", 26 D10_2 (in) "Data Port DAC2, data bit 10.", 27 D9_2 (in) "Data Port DAC2, data bit 9.", 28 D8_2 (in) "Data Port DAC2, data bit 8.", 29 D7_2 (in) "Data Port DAC2, data bit 7.", 30 D6_2 (in) "Data Port DAC2, data bit6.", 31 D5_2 (in) "Data Port DAC2, data bit 5.", 32 D4_2 (in) "Data Port DAC2, data bit 4.", 33 D3_2 (in) "Data Port DAC2, data bit 3.", 34 D2_2 (in) "Data Port DAC2, data bit 2.", 35 D1_2 (in) "Data Port DAC2, data bit 1.", 36 D0_2 (LSB) (in) "Data Port DAC2, data bit 0 (LSB).", 39 IOUT2 (hiz) "Current output DAC2. Full-scale with all bits of data port 2 high.", 40 I~{OUT}2 (hiz) "Complementary current output DAC2. Full-scale with all bits of data port 2 low."
part C pins: 15 DGND (power) "Digital ground", 16 +VD (power) "Digital supply, +3.0V to +5.5V", 17 WRT1 (in) "DAC1 Input latches write signal", 18 CLK1 (in) "Clock input DAC1", 19 CLK2 (in) "Clock input DAC2", 20 WRT2 (in) "DAC2 Input latches write signal", 21 DGND (power) "Digital ground", 22 +VD (power) "Digital supply, +3.0V to +5.5V", 37 PD (in) "Power-down function control input. H = DAC in power-down mode; L = DAC in normal operation (internal pull-down for default L).", 38 AGND (power) "Analog ground", 41 FSA2 (in) "Full-scale adjust, DAC2. Connect external RSET resistor.", 42 GSET (in) "Gain-setting mode (H = one resistor, L = two resistors)", 43 REFIN (io) "Internal reference voltage output; external reference voltage input. Bypass with 0.1uF capacitor to AGND for internal reference operation.", 44 FSA1 (in) "Full-scale adjust, DAC1. Connect external RSET resistor.", 47 +VA (power) "Analog supply, +3.0V to +5.5V", 48 NC "No connection"

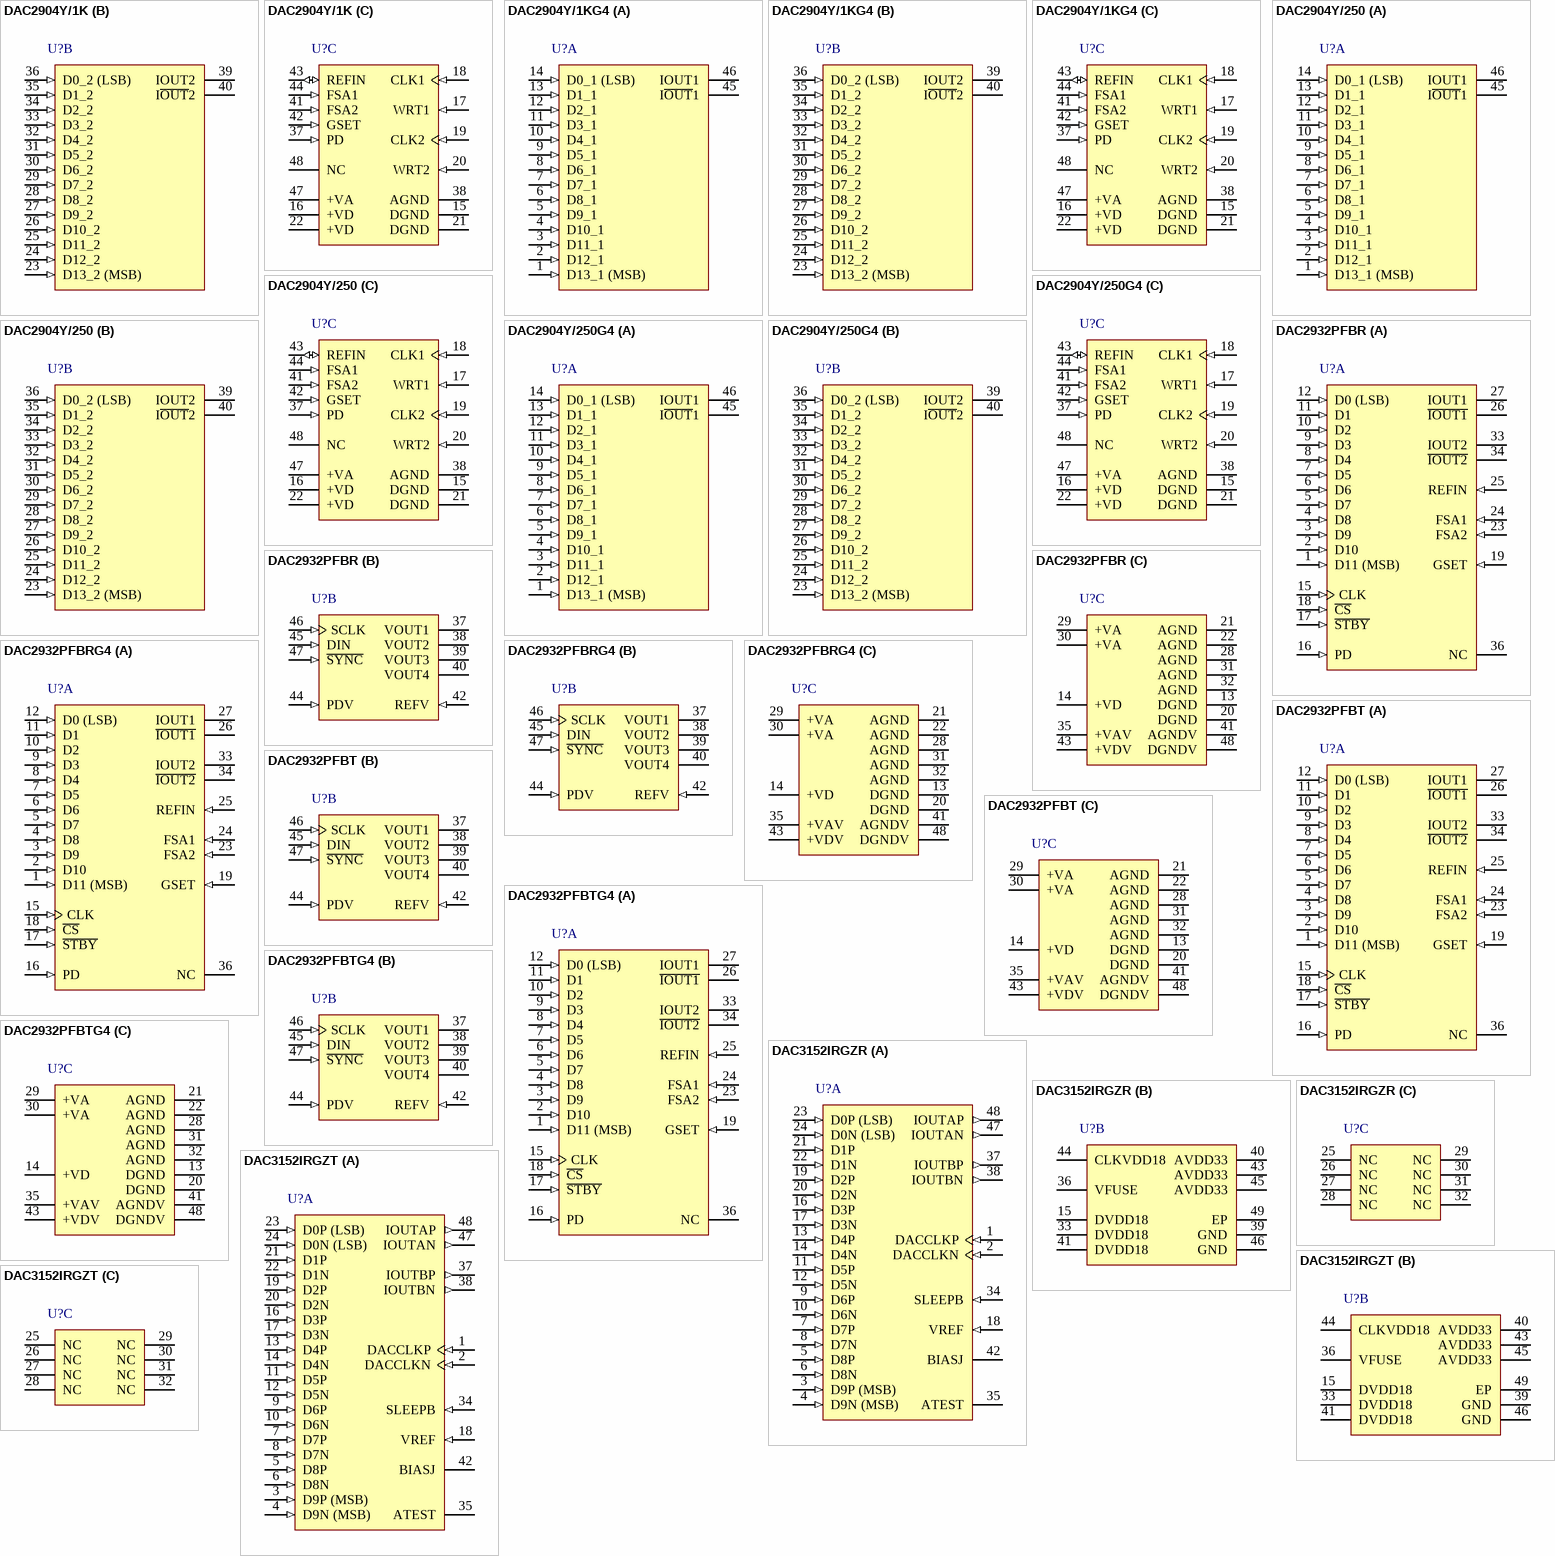
[diagram p10: symbols DAC2904Y/1K to DAC3152IRGZT]

## DAC2904Y/1K
designator U?
14-Bit, 125 MSPS Dual Communications DAC, -40 to 85 degC, 48-pin QFP (PFB48), Green (RoHS & no Sb/Br); Manufacturer: Texas Instruments; PartNumber: DAC2904Y/1K; DAC Channels: 2; Interface: Parallel CMOS; Power Consumption(Typ)(mW): 310; Resolution(Bits): 14; Settling Time(us): 0.03; SFDR(dB): 82; SNR(dB): 68; SubFamily: High Speed DAC (>10MSPS); DatasheetVersion: SBAS198C; PackageVersion: 4073176/B, 10/1996; PackageReference: PFB48; PackageDescription: 48-Pin Plastic Flat Pack, Body 7 x 7 mm, Pitch 0.5 mm; Supplier 1: Digi-Key; Supplier Part Number 1: DAC2904Y/1K-ND; Eco-Plan: Green (RoHS & no Sb/Br); Mounting Technology: Surface Mount; Code_JEDEC: MS-026; ComponentLink1Description: Manufacturer URL; ComponentLink1URL: http://www.ti.com/; ComponentLink2Description: Datasheet; ComponentLink2URL: http://www.ti.com/general/docs/lit/getliterature.tsp?genericPartNumber=DAC2904&fileType=pdf; ComponentLink3Description: Package Specification; ComponentLink3URL: http://www.ti.com/lit/ml/mtqf019a/mtqf019a.pdf
footprint TI-PFB48_N (QFP, 48-Leads, Body 7x7mm, Pitch 0.5mm, IPC Medium Density)
footprint TI-PFB48_L (QFP, 48-Leads, Body 7x7mm, Pitch 0.5mm, IPC High Density)
footprint TI-PFB48_M (QFP, 48-Leads, Body 7x7mm, Pitch 0.5mm, IPC Low Density)
part A pins: 1 D13_1 (MSB) (in) "Data Port DAC1, data bit 13 (MSB).", 2 D12_1 (in) "Data Port DAC1, data bit 12.", 3 D11_1 (in) "Data Port DAC1, data bit 11.", 4 D10_1 (in) "Data Port DAC1, data bit 10.", 5 D9_1 (in) "Data Port DAC1, data bit 9.", 6 D8_1 (in) "Data Port DAC1, data bit 8.", 7 D7_1 (in) "Data Port DAC1, data bit 7.", 8 D6_1 (in) "Data Port DAC1, data bit6.", 9 D5_1 (in) "Data Port DAC1, data bit 5.", 10 D4_1 (in) "Data Port DAC1, data bit 4.", 11 D3_1 (in) "Data Port DAC1, data bit 3.", 12 D2_1 (in) "Data Port DAC1, data bit 2.", 13 D1_1 (in) "Data Port DAC1, data bit 1.", 14 D0_1 (LSB) (in) "Data Port DAC1, data bit 0 (LSB).", 45 I~{OUT}1 (hiz) "Complementary current output DAC1. Full-scale with all bits of data port 1 low.", 46 IOUT1 (hiz) "Current output DAC1. Full-scale with all bits of data port 1 high."
part B pins: 23 D13_2 (MSB) (in) "Data Port DAC2, data bit 13 (MSB).", 24 D12_2 (in) "Data Port DAC2, data bit 12.", 25 D11_2 (in) "Data Port DAC2, data bit 11.", 26 D10_2 (in) "Data Port DAC2, data bit 10.", 27 D9_2 (in) "Data Port DAC2, data bit 9.", 28 D8_2 (in) "Data Port DAC2, data bit 8.", 29 D7_2 (in) "Data Port DAC2, data bit 7.", 30 D6_2 (in) "Data Port DAC2, data bit6.", 31 D5_2 (in) "Data Port DAC2, data bit 5.", 32 D4_2 (in) "Data Port DAC2, data bit 4.", 33 D3_2 (in) "Data Port DAC2, data bit 3.", 34 D2_2 (in) "Data Port DAC2, data bit 2.", 35 D1_2 (in) "Data Port DAC2, data bit 1.", 36 D0_2 (LSB) (in) "Data Port DAC2, data bit 0 (LSB).", 39 IOUT2 (hiz) "Current output DAC2. Full-scale with all bits of data port 2 high.", 40 I~{OUT}2 (hiz) "Complementary current output DAC2. Full-scale with all bits of data port 2 low."
part C pins: 15 DGND (power) "Digital ground", 16 +VD (power) "Digital supply, +3.0V to +5.5V", 17 WRT1 (in) "DAC1 Input latches write signal", 18 CLK1 (in) "Clock input DAC1", 19 CLK2 (in) "Clock input DAC2", 20 WRT2 (in) "DAC2 Input latches write signal", 21 DGND (power) "Digital ground", 22 +VD (power) "Digital supply, +3.0V to +5.5V", 37 PD (in) "Power-down function control input. H = DAC in power-down mode; L = DAC in normal operation (internal pull-down for default L).", 38 AGND (power) "Analog ground", 41 FSA2 (in) "Full-scale adjust, DAC2. Connect external RSET resistor.", 42 GSET (in) "Gain-setting mode (H = one resistor, L = two resistors)", 43 REFIN (io) "Internal reference voltage output; external reference voltage input. Bypass with 0.1uF capacitor to AGND for internal reference operation.", 44 FSA1 (in) "Full-scale adjust, DAC1. Connect external RSET resistor.", 47 +VA (power) "Analog supply, +3.0V to +5.5V", 48 NC "No connection"

## DAC2904Y/1KG4
designator U?
14-Bit, 125 MSPS Dual Communications DAC, -40 to 85 degC, 48-pin QFP (PFB48), Green (RoHS & no Sb/Br); Manufacturer: Texas Instruments; PartNumber: DAC2904Y/1KG4; DAC Channels: 2; Interface: Parallel CMOS; Power Consumption(Typ)(mW): 310; Resolution(Bits): 14; Settling Time(us): 0.03; SFDR(dB): 82; SNR(dB): 68; SubFamily: High Speed DAC (>10MSPS); DatasheetVersion: SBAS198C; PackageVersion: 4073176/B, 10/1996; PackageReference: PFB48; PackageDescription: 48-Pin Plastic Flat Pack, Body 7 x 7 mm, Pitch 0.5 mm; Supplier 1: Digi-Key; Supplier Part Number 1: DAC2904Y/1KG4-ND; Supplier 2: Mouser; Supplier Part Number 2: 595-DAC2904Y/1KG4; Eco-Plan: Green (RoHS & no Sb/Br); Mounting Technology: Surface Mount; Code_JEDEC: MS-026; ComponentLink1Description: Manufacturer URL; ComponentLink1URL: http://www.ti.com/; ComponentLink2Description: Datasheet; ComponentLink2URL: http://www.ti.com/general/docs/lit/getliterature.tsp?genericPartNumber=DAC2904&fileType=pdf; ComponentLink3Description: Package Specification; ComponentLink3URL: http://www.ti.com/lit/ml/mtqf019a/mtqf019a.pdf
footprint TI-PFB48_N (QFP, 48-Leads, Body 7x7mm, Pitch 0.5mm, IPC Medium Density)
footprint TI-PFB48_L (QFP, 48-Leads, Body 7x7mm, Pitch 0.5mm, IPC High Density)
footprint TI-PFB48_M (QFP, 48-Leads, Body 7x7mm, Pitch 0.5mm, IPC Low Density)
part A pins: 1 D13_1 (MSB) (in) "Data Port DAC1, data bit 13 (MSB).", 2 D12_1 (in) "Data Port DAC1, data bit 12.", 3 D11_1 (in) "Data Port DAC1, data bit 11.", 4 D10_1 (in) "Data Port DAC1, data bit 10.", 5 D9_1 (in) "Data Port DAC1, data bit 9.", 6 D8_1 (in) "Data Port DAC1, data bit 8.", 7 D7_1 (in) "Data Port DAC1, data bit 7.", 8 D6_1 (in) "Data Port DAC1, data bit6.", 9 D5_1 (in) "Data Port DAC1, data bit 5.", 10 D4_1 (in) "Data Port DAC1, data bit 4.", 11 D3_1 (in) "Data Port DAC1, data bit 3.", 12 D2_1 (in) "Data Port DAC1, data bit 2.", 13 D1_1 (in) "Data Port DAC1, data bit 1.", 14 D0_1 (LSB) (in) "Data Port DAC1, data bit 0 (LSB).", 45 I~{OUT}1 (hiz) "Complementary current output DAC1. Full-scale with all bits of data port 1 low.", 46 IOUT1 (hiz) "Current output DAC1. Full-scale with all bits of data port 1 high."
part B pins: 23 D13_2 (MSB) (in) "Data Port DAC2, data bit 13 (MSB).", 24 D12_2 (in) "Data Port DAC2, data bit 12.", 25 D11_2 (in) "Data Port DAC2, data bit 11.", 26 D10_2 (in) "Data Port DAC2, data bit 10.", 27 D9_2 (in) "Data Port DAC2, data bit 9.", 28 D8_2 (in) "Data Port DAC2, data bit 8.", 29 D7_2 (in) "Data Port DAC2, data bit 7.", 30 D6_2 (in) "Data Port DAC2, data bit6.", 31 D5_2 (in) "Data Port DAC2, data bit 5.", 32 D4_2 (in) "Data Port DAC2, data bit 4.", 33 D3_2 (in) "Data Port DAC2, data bit 3.", 34 D2_2 (in) "Data Port DAC2, data bit 2.", 35 D1_2 (in) "Data Port DAC2, data bit 1.", 36 D0_2 (LSB) (in) "Data Port DAC2, data bit 0 (LSB).", 39 IOUT2 (hiz) "Current output DAC2. Full-scale with all bits of data port 2 high.", 40 I~{OUT}2 (hiz) "Complementary current output DAC2. Full-scale with all bits of data port 2 low."
part C pins: 15 DGND (power) "Digital ground", 16 +VD (power) "Digital supply, +3.0V to +5.5V", 17 WRT1 (in) "DAC1 Input latches write signal", 18 CLK1 (in) "Clock input DAC1", 19 CLK2 (in) "Clock input DAC2", 20 WRT2 (in) "DAC2 Input latches write signal", 21 DGND (power) "Digital ground", 22 +VD (power) "Digital supply, +3.0V to +5.5V", 37 PD (in) "Power-down function control input. H = DAC in power-down mode; L = DAC in normal operation (internal pull-down for default L).", 38 AGND (power) "Analog ground", 41 FSA2 (in) "Full-scale adjust, DAC2. Connect external RSET resistor.", 42 GSET (in) "Gain-setting mode (H = one resistor, L = two resistors)", 43 REFIN (io) "Internal reference voltage output; external reference voltage input. Bypass with 0.1uF capacitor to AGND for internal reference operation.", 44 FSA1 (in) "Full-scale adjust, DAC1. Connect external RSET resistor.", 47 +VA (power) "Analog supply, +3.0V to +5.5V", 48 NC "No connection"

## DAC2904Y/250
designator U?
14-Bit, 125 MSPS Dual Communications DAC, -40 to 85 degC, 48-pin QFP (PFB48), Green (RoHS & no Sb/Br); Manufacturer: Texas Instruments; PartNumber: DAC2904Y/250; DAC Channels: 2; Interface: Parallel CMOS; Power Consumption(Typ)(mW): 310; Resolution(Bits): 14; Settling Time(us): 0.03; SFDR(dB): 82; SNR(dB): 68; SubFamily: High Speed DAC (>10MSPS); DatasheetVersion: SBAS198C; PackageVersion: 4073176/B, 10/1996; PackageReference: PFB48; PackageDescription: 48-Pin Plastic Flat Pack, Body 7 x 7 mm, Pitch 0.5 mm; Supplier 1: Digi-Key; Supplier Part Number 1: 296-13071-2-ND; Supplier 2: Digi-Key; Supplier Part Number 2: 296-13071-1-ND; Supplier 3: Digi-Key; Supplier Part Number 3: 296-13071-6-ND; Supplier 4: Farnell; Supplier Part Number 4: 1659623; Supplier 5: Newark; Supplier Part Number 5: 74C9122; Supplier 6: Mouser; Supplier Part Number 6: 595-DAC2904Y/250; Eco-Plan: Green (RoHS & no Sb/Br); Mounting Technology: Surface Mount; Code_JEDEC: MS-026; ComponentLink1Description: Manufacturer URL; ComponentLink1URL: http://www.ti.com/; ComponentLink2Description: Datasheet; ComponentLink2URL: http://www.ti.com/general/docs/lit/getliterature.tsp?genericPartNumber=DAC2904&fileType=pdf; ComponentLink3Description: Package Specification; ComponentLink3URL: http://www.ti.com/lit/ml/mtqf019a/mtqf019a.pdf
footprint TI-PFB48_N (QFP, 48-Leads, Body 7x7mm, Pitch 0.5mm, IPC Medium Density)
footprint TI-PFB48_L (QFP, 48-Leads, Body 7x7mm, Pitch 0.5mm, IPC High Density)
footprint TI-PFB48_M (QFP, 48-Leads, Body 7x7mm, Pitch 0.5mm, IPC Low Density)
part A pins: 1 D13_1 (MSB) (in) "Data Port DAC1, data bit 13 (MSB).", 2 D12_1 (in) "Data Port DAC1, data bit 12.", 3 D11_1 (in) "Data Port DAC1, data bit 11.", 4 D10_1 (in) "Data Port DAC1, data bit 10.", 5 D9_1 (in) "Data Port DAC1, data bit 9.", 6 D8_1 (in) "Data Port DAC1, data bit 8.", 7 D7_1 (in) "Data Port DAC1, data bit 7.", 8 D6_1 (in) "Data Port DAC1, data bit6.", 9 D5_1 (in) "Data Port DAC1, data bit 5.", 10 D4_1 (in) "Data Port DAC1, data bit 4.", 11 D3_1 (in) "Data Port DAC1, data bit 3.", 12 D2_1 (in) "Data Port DAC1, data bit 2.", 13 D1_1 (in) "Data Port DAC1, data bit 1.", 14 D0_1 (LSB) (in) "Data Port DAC1, data bit 0 (LSB).", 45 I~{OUT}1 (hiz) "Complementary current output DAC1. Full-scale with all bits of data port 1 low.", 46 IOUT1 (hiz) "Current output DAC1. Full-scale with all bits of data port 1 high."
part B pins: 23 D13_2 (MSB) (in) "Data Port DAC2, data bit 13 (MSB).", 24 D12_2 (in) "Data Port DAC2, data bit 12.", 25 D11_2 (in) "Data Port DAC2, data bit 11.", 26 D10_2 (in) "Data Port DAC2, data bit 10.", 27 D9_2 (in) "Data Port DAC2, data bit 9.", 28 D8_2 (in) "Data Port DAC2, data bit 8.", 29 D7_2 (in) "Data Port DAC2, data bit 7.", 30 D6_2 (in) "Data Port DAC2, data bit6.", 31 D5_2 (in) "Data Port DAC2, data bit 5.", 32 D4_2 (in) "Data Port DAC2, data bit 4.", 33 D3_2 (in) "Data Port DAC2, data bit 3.", 34 D2_2 (in) "Data Port DAC2, data bit 2.", 35 D1_2 (in) "Data Port DAC2, data bit 1.", 36 D0_2 (LSB) (in) "Data Port DAC2, data bit 0 (LSB).", 39 IOUT2 (hiz) "Current output DAC2. Full-scale with all bits of data port 2 high.", 40 I~{OUT}2 (hiz) "Complementary current output DAC2. Full-scale with all bits of data port 2 low."
part C pins: 15 DGND (power) "Digital ground", 16 +VD (power) "Digital supply, +3.0V to +5.5V", 17 WRT1 (in) "DAC1 Input latches write signal", 18 CLK1 (in) "Clock input DAC1", 19 CLK2 (in) "Clock input DAC2", 20 WRT2 (in) "DAC2 Input latches write signal", 21 DGND (power) "Digital ground", 22 +VD (power) "Digital supply, +3.0V to +5.5V", 37 PD (in) "Power-down function control input. H = DAC in power-down mode; L = DAC in normal operation (internal pull-down for default L).", 38 AGND (power) "Analog ground", 41 FSA2 (in) "Full-scale adjust, DAC2. Connect external RSET resistor.", 42 GSET (in) "Gain-setting mode (H = one resistor, L = two resistors)", 43 REFIN (io) "Internal reference voltage output; external reference voltage input. Bypass with 0.1uF capacitor to AGND for internal reference operation.", 44 FSA1 (in) "Full-scale adjust, DAC1. Connect external RSET resistor.", 47 +VA (power) "Analog supply, +3.0V to +5.5V", 48 NC "No connection"